# Altium schematic symbol library SMA.SchLib: 2 symbols
Pins are listed as number, name and electrical type; pins without a type are passive.

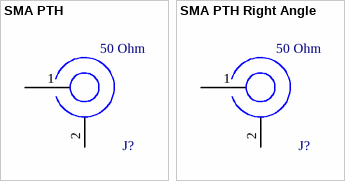
[diagram p0: symbols SMA PTH to SMA PTH Right Angle]

## SMA PTH
designator J?  Impedance: 50 Ohm  (hidden comment: SMA PTH)
SMA Connector Jack, Female Socket 50 Ohm Through Hole Solder; ComponentLink1Description: Datasheet; ComponentLink1URL: https://www.te.com/commerce/DocumentDelivery/DDEController?Action=srchrtrv&DocNm=1814832&DocType=Customer+Drawing&DocLang=English; Digikey PN: *; Manufacturer 1: *; Manufacturer 1 PN: *; Mouser PN: *; Notes: *
footprint SMA PTH (SMA Connector Jack, Female Socket 50 Ohm Through Hole Solder)
pins: 1 (power), 2 (power)

## SMA PTH Right Angle
designator J?  Impedance: 50 Ohm  (hidden comment: SMA PTH Right Angle)
SMA Connector Jack, Female Socket 50 Ohm Through Hole, Right Angle Solder; Manufacturer 1: TE Connectivity AMP Connectors; Manufacturer 1 PN: 5-1814400-1; Digikey PN: A97593-ND; Mouser PN: 571-5-1814400-1; ComponentLink1Description: Datasheet; ComponentLink1URL: https://www.te.com/commerce/DocumentDelivery/DDEController?Action=srchrtrv&DocNm=1814400&DocType=Customer+Drawing&DocLang=English
footprint SMA PTH Right Angle (SMA Connector Jack, Female Socket 50 Ohm Through Hole, Right Angle Solder)
pins: 1 (power), 2 (power)